# EAGLE library part ,GILTESA_2X4_SMD_2.0MM (library Relay Switch)
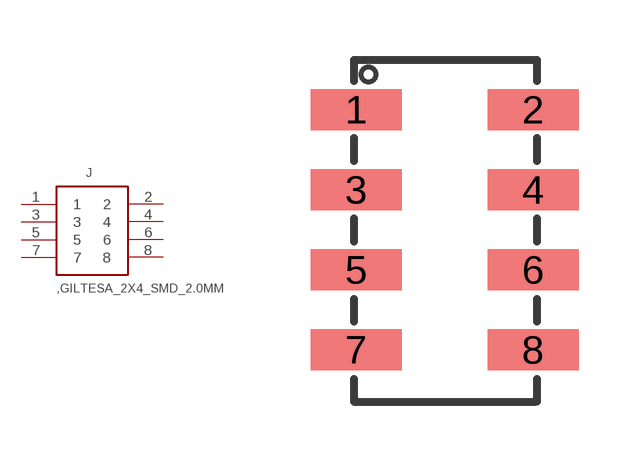
[diagram p0: symbol with the pads of ,GILTESA_2X4_SMD_2.0MM; footprint ,GILTESA_2X4_SMD_2.0MM]

Designator prefix J

## ,GILTESA_2X4_SMD_2.0MM  [,GILTESA_2X4_SMD_2.0MM]
1  1
2  2
3  3
4  4
5  5
6  6
7  7
8  8

## Footprint ,GILTESA_2X4_SMD_2.0MM (pad centres in mm)
smd 2.286 x 1.016: 1 -2.213,2.976; 2 2.212,2.976; 3 -2.213,0.976; 4 2.212,0.976; 5 -2.213,-1.024; 6 2.212,-1.024; 7 -2.213,-3.024; 8 2.212,-3.024